# Altium schematic symbol library Diode_Littelfuse_Inc_SP3003-08ATG_eec.SchLib: 1 symbol
Pins are listed as number, name and electrical type; pins without a type are passive.

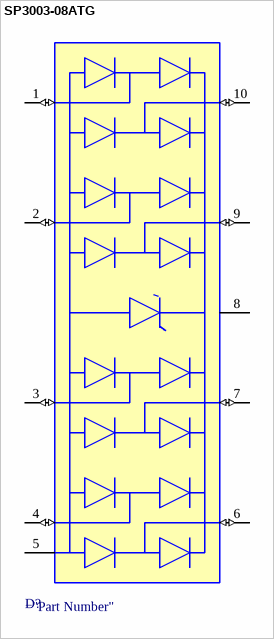
[diagram p0: symbol SP3003-08ATG]

## SP3003-08ATG
designator D?  (value not drawn)
Manufacturer: Littelfuse; Manufacturer Part Number: SP3003-08ATG
footprint Littelfuse_Inc_SP3003_MFG
pins: 1 I/O 1 (io), 2 I/O 2 (io), 3 I/O 3 (io), 4 I/O 4 (io), 5 GND (power), 6 I/O 5 (io), 7 I/O 6 (io), 8 NC, 9 I/O 7 (io), 10 I/O 8 (io)